# EAGLE library part H6 (library aurigaBot)
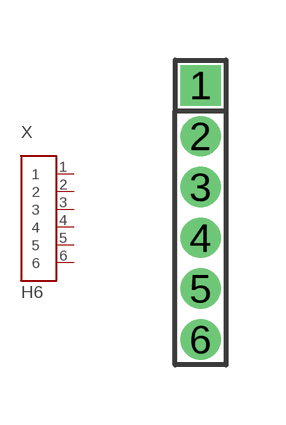
[diagram p11: symbol with the pads of HEADER6_50MIL; footprint HEADER6_50MIL]

Designator prefix X

## H650MIL  [HEADER6_50MIL]
1  1
2  2
3  3
4  4
5  5
6  6

## Footprint HEADER6_50MIL (pad centres in mm)
drill 0.5 pad 0.813 square: 1 0,2.54
drill 0.5 pad 0.813 round: 2 0,1.27; 3 0,0; 4 0,-1.27; 5 0,-2.54; 6 0,-3.81